# EAGLE library part EFM8BB10F(2/4/8)G-A-QFN20 (library MF_IC_Digital)
Manufacturer Part #: EFM8BB10F(2/4/8)G-A-QFN20 Manufacturer: Silicon Labs Description: Busy Bee 8-bit Microcontrollers - MCU (2/4/8)kB / (256/512)B RAM 12b ADC
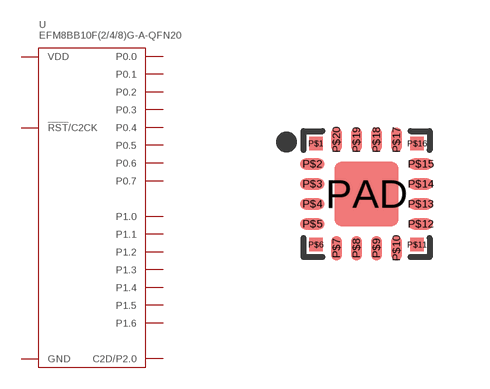
[diagram p11: symbol with the pads of EFM8BB10F(2/4/8)G-A-QFN20; footprint EFM8BB10F(2/4/8)G-A-QFN20]

Designator prefix U

## EFM8BB10F(2/4/8)G-A-QFN20 (HOUSEPART: NO; POPULATE: 1; URL: http://www.silabs.com/products/mcu/8-bit/efm8-busy-bee/Pages/efm8-busy-bee.aspx)  [EFM8BB10F(2/4/8)G-A-QFN20]
P$1  P0.1
P$2  P0.0
P$3  GND
P$4  VDD
P$5  !RST!/C2CK
P$6  C2D/P2.0
P$7  P1.5
P$8  P1.4
P$9  P1.6
P$10  P1.3
P$11  P1.2
P$12  GND
P$13  P1.1
P$14  P1.0
P$15  P0.7
P$16  P0.6
P$17  P0.5
P$18  P0.4
P$19  P0.3
P$20  P0.2
PAD  GND

## Footprint EFM8BB10F(2/4/8)G-A-QFN20 (pad centres in mm)
Description: Silicon Labs Busy Bee QFN20 Package.
smd 0.34 x 0.34: P$1 -1.265,1.265; P$6 -1.265,-1.265; P$11 1.265,-1.265; P$16 1.265,1.265
smd 0.61 x 0.28: P$2 -1.355,0.75; P$3 -1.355,0.25; P$4 -1.355,-0.25; P$5 -1.355,-0.75; P$12 1.355,-0.75; P$13 1.355,-0.25; P$14 1.355,0.25; P$15 1.355,0.75
smd 0.28 x 0.61: P$7 -0.75,-1.355; P$8 -0.25,-1.355; P$9 0.25,-1.355; P$10 0.75,-1.355; P$17 0.75,1.355; P$18 0.25,1.355; P$19 -0.25,1.355; P$20 -0.75,1.355
smd 1.6 x 1.6: PAD 0,0